# Altium integrated library led.IntLib: 1 symbol
Pins are listed as number, name and electrical type; pins without a type are passive.

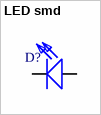
[diagram p0: symbol LED smd]

## LED smd
designator D?  (value not drawn)
footprint LED_0603
footprint LED_1206
footprint LED_0805
pins: 1 A, 2 K